# Altium integrated library IR Discrete MOSFET - Power.IntLib: 893 symbols (part 13 of 14)
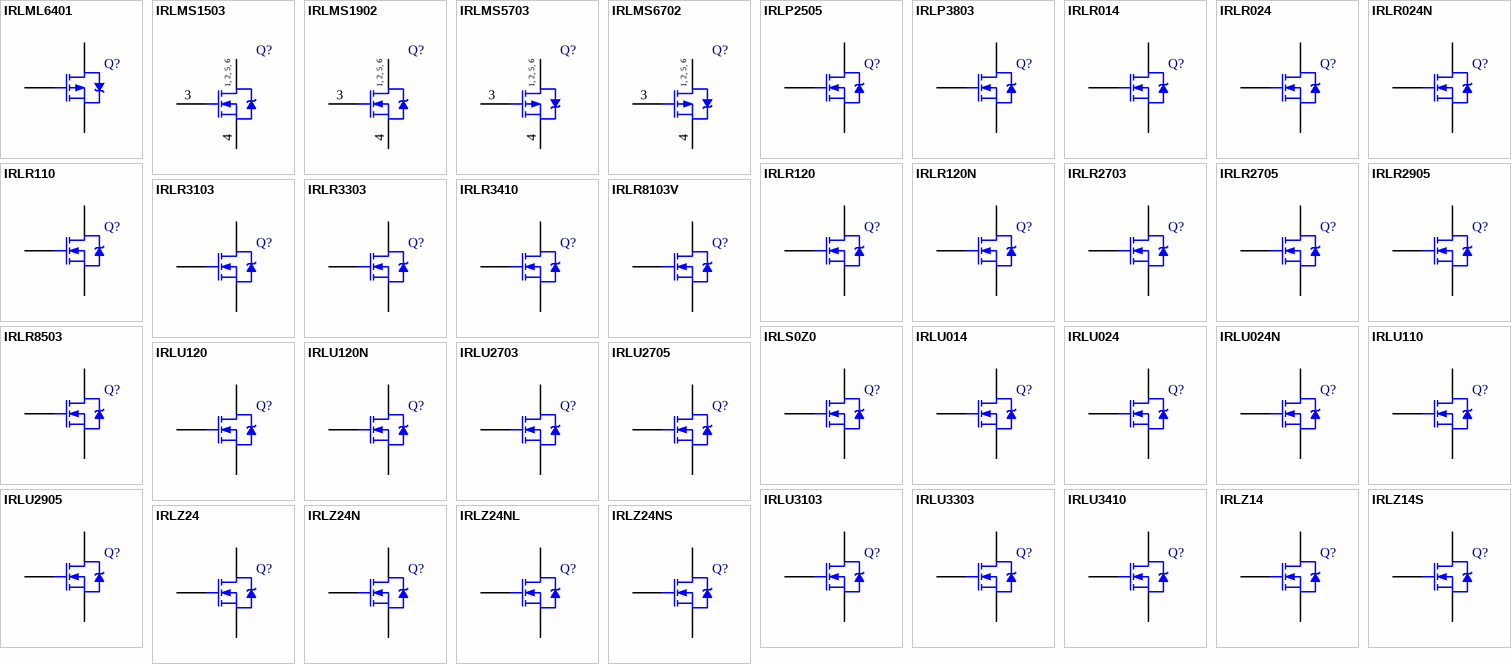
[diagram p35: symbols IRLML6401 to IRLZ24NS]

## IRLU3410
designator Q?
HEXFET Power MOSFET; Note: Pin 2 is electrically connected to pin 4.; Published: 8-Jun-2000; LatestRevisionDate: 17-Jul-2002; LatestRevisionNote: Re-released for DXP Platform.; DatasheetVersion: May-1998; PackageReference: TO-251AA; Publisher: Altium Limited; PackageDescription: TO, Thru-Hole, Vertical, Heatsink Mounted; 3 In-Line Leads; Pitch 2.28 mm; ComponentLink1Description: Manufacturer Link; ComponentLink1URL: http://www.irf.com/; ComponentLink2Description: Datasheet; ComponentLink2URL: http://www.irf.com/product-info/datasheets/data/irlr3410.pdf
footprint TO-251AA (TO, Thru-Hole, Vertical, Heatsink Mounted; 3 In-Line Leads; Pitch 2.28 mm)
pins: 1 G, 2 D, 3 S

## IRLZ14
designator Q?
HEXFET N-Channel Power MOSFET; Note: Pin 2 is electrically connected to pin 4.; Published: 8-Jun-2000; LatestRevisionDate: 17-Jul-2002; LatestRevisionNote: Re-released for DXP Platform.; DatasheetVersion: PD-9.556C; PackageVersion: Feb-1997; PackageReference: TO-220AB; Publisher: Altium Limited; PackageDescription: TO, Thru-Hole, Vertical, Heatsink Mounted; 3 In-Line Leads; Pitch 2.54 mm; ComponentLink1Description: Manufacturer Link; ComponentLink1URL: http://www.irf.com/; ComponentLink2Description: Datasheet; ComponentLink2URL: http://www.irf.com/product-info/datasheets/data/irlz14.pdf
footprint TO-220AB (TO, Thru-Hole, Vertical, Heatsink Mounted; 3 In-Line Leads; Pitch 2.54 mm)
simulation model IRLZ14 (SUBCKT)
pins: 1 G, 2 D, 3 S

## IRLZ14S
designator Q?
HEXFET N-Channel Power MOSFET; Published: 8-Jun-2000; LatestRevisionDate: 17-Jul-2002; LatestRevisionNote: Re-released for DXP Platform.; DatasheetVersion: Aug-1997; PackageReference: D2PAK; Publisher: Altium Limited; PackageDescription: D2-PAK/TO-263-AB; 3 Leads (1 Cropped); Body 15.5 (inc. leads) x 10.5 mm (LxW max); ComponentLink1Description: Manufacturer Link; ComponentLink1URL: http://www.irf.com/; ComponentLink2Description: Datasheet; ComponentLink2URL: http://www.irf.com/product-info/datasheets/data/irlz14s.pdf
footprint D2PAK (D2-PAK/TO-263-AB; 3 Leads (1 Cropped); Body 15.5 (inc. leads) x 10.5 mm (LxW max))
simulation model IRLZ14S (SUBCKT)
pins: 1 G, 2 D, 3 S

## IRLZ24
designator Q?
HEXFET N-Channel Power MOSFET; Note: Pin 2 is electrically connected to pin 4.; Published: 8-Jun-2000; LatestRevisionDate: 17-Jul-2002; LatestRevisionNote: Re-released for DXP Platform.; DatasheetVersion: PD-9.557C; PackageVersion: Feb-1997; PackageReference: TO-220AB; Publisher: Altium Limited; PackageDescription: TO, Thru-Hole, Vertical, Heatsink Mounted; 3 In-Line Leads; Pitch 2.54 mm; ComponentLink1Description: Manufacturer Link; ComponentLink1URL: http://www.irf.com/; ComponentLink2Description: Datasheet; ComponentLink2URL: http://www.irf.com/product-info/datasheets/data/irlz24.pdf
footprint TO-220AB (TO, Thru-Hole, Vertical, Heatsink Mounted; 3 In-Line Leads; Pitch 2.54 mm)
simulation model IRLZ24 (SUBCKT)
pins: 1 G, 2 D, 3 S

## IRLZ24N
designator Q?
HEXFET Power MOSFET; Note: Pin 2 is electrically connected to pin 4.; Published: 8-Jun-2000; LatestRevisionDate: 17-Jul-2002; LatestRevisionNote: Re-released for DXP Platform.; DatasheetVersion: Nov-1996; PackageVersion: Feb-1997; PackageReference: TO-220AB; Publisher: Altium Limited; PackageDescription: TO, Thru-Hole, Vertical, Heatsink Mounted; 3 In-Line Leads; Pitch 2.54 mm; ComponentLink1Description: Manufacturer Link; ComponentLink1URL: http://www.irf.com/; ComponentLink2Description: Datasheet; ComponentLink2URL: http://www.irf.com/product-info/datasheets/data/irlz24n.pdf
footprint TO-220AB (TO, Thru-Hole, Vertical, Heatsink Mounted; 3 In-Line Leads; Pitch 2.54 mm)
pins: 1 G, 2 D, 3 S

## IRLZ24NL
designator Q?
HEXFET Power MOSFET; Note: Pin 2 is electrically connected to pin 4.; Published: 8-Jun-2000; LatestRevisionDate: 17-Jul-2002; LatestRevisionNote: Re-released for DXP Platform.; DatasheetVersion: May-1998; PackageReference: TO-262; Publisher: Altium Limited; PackageDescription: TO, Thru-Hole, Vertical, Heatsink Mounted; 3 In-Line Leads; Pitch 2.54 mm; ComponentLink1Description: Manufacturer Link; ComponentLink1URL: http://www.irf.com/; ComponentLink2Description: Datasheet; ComponentLink2URL: http://www.irf.com/product-info/datasheets/data/irlz24nl.pdf
footprint TO-262 (TO, Thru-Hole, Vertical, Heatsink Mounted; 3 In-Line Leads; Pitch 2.54 mm)
pins: 1 G, 2 D, 3 S

## IRLZ24NS
designator Q?
HEXFET Power MOSFET; Published: 8-Jun-2000; LatestRevisionDate: 17-Jul-2002; LatestRevisionNote: Re-released for DXP Platform.; DatasheetVersion: May-1998; PackageReference: D2PAK; Publisher: Altium Limited; PackageDescription: D2-PAK/TO-263-AB; 3 Leads (1 Cropped); Body 15.5 (inc. leads) x 10.5 mm (LxW max); ComponentLink1Description: Manufacturer Link; ComponentLink1URL: http://www.irf.com/; ComponentLink2Description: Datasheet; ComponentLink2URL: http://www.irf.com/product-info/datasheets/data/irlz24ns.pdf
footprint D2PAK (D2-PAK/TO-263-AB; 3 Leads (1 Cropped); Body 15.5 (inc. leads) x 10.5 mm (LxW max))
pins: 1 G, 2 D, 3 S

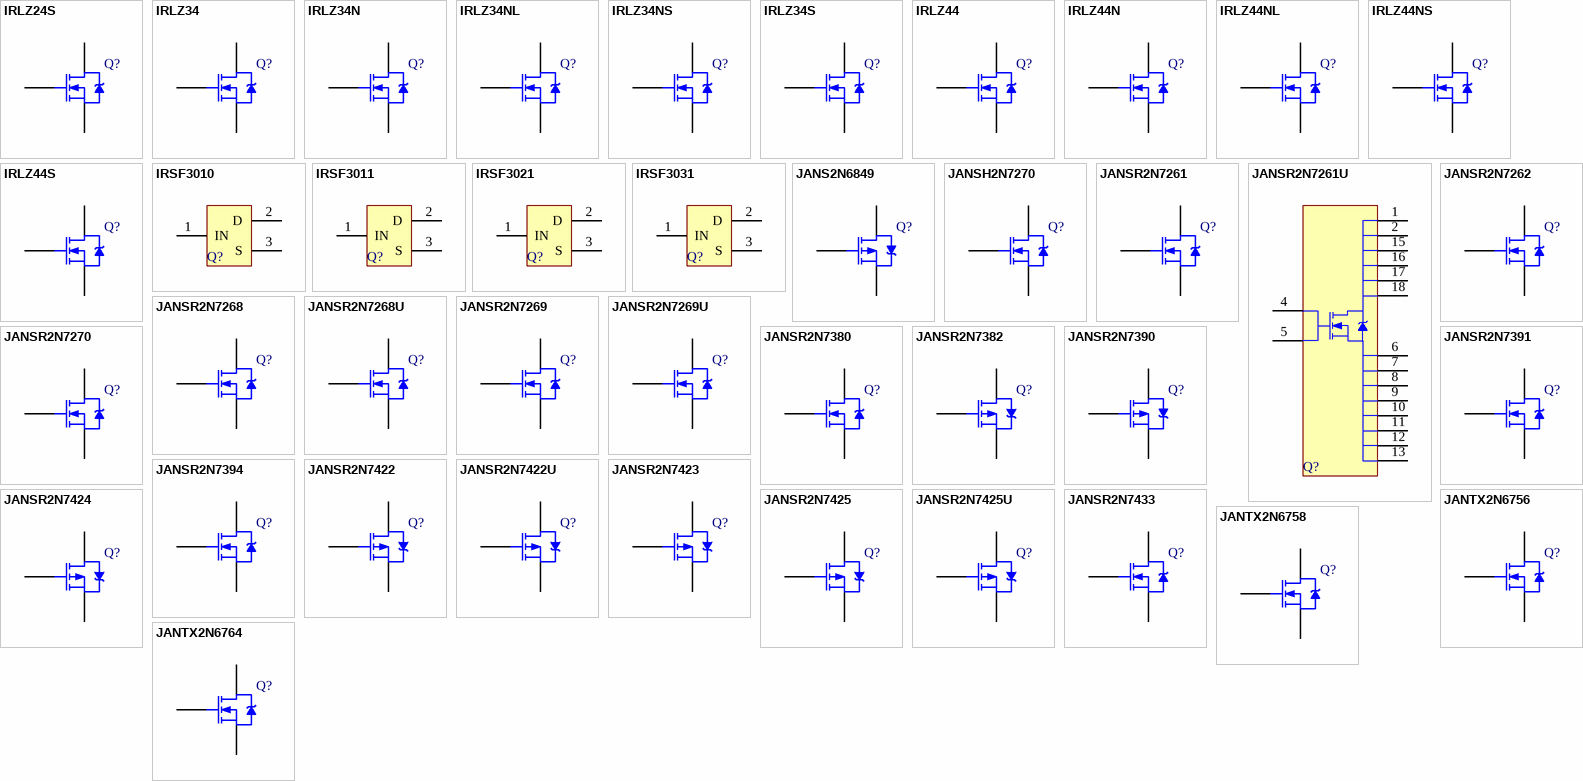
[diagram p22: symbols IRLZ24S to JANTX2N6764]

## IRLZ24S
designator Q?
HEXFET N-Channel Power MOSFET; Published: 8-Jun-2000; LatestRevisionDate: 17-Jul-2002; LatestRevisionNote: Re-released for DXP Platform.; DatasheetVersion: PD-9.904; PackageReference: D2PAK; Publisher: Altium Limited; PackageDescription: D2-PAK/TO-263-AB; 3 Leads (1 Cropped); Body 15.5 (inc. leads) x 10.5 mm (LxW max); ComponentLink1Description: Manufacturer Link; ComponentLink1URL: http://www.irf.com/; ComponentLink2Description: Datasheet; ComponentLink2URL: http://www.irf.com/product-info/datasheets/data/irlz24s.pdf
footprint D2PAK (D2-PAK/TO-263-AB; 3 Leads (1 Cropped); Body 15.5 (inc. leads) x 10.5 mm (LxW max))
simulation model IRLZ24S (SUBCKT)
pins: 1 G, 2 D, 3 S

## IRLZ34
designator Q?
HEXFET N-Channel Power MOSFET; Note: Pin 2 is electrically connected to pin 4.; Published: 8-Jun-2000; LatestRevisionDate: 17-Jul-2002; LatestRevisionNote: Re-released for DXP Platform.; DatasheetVersion: PD-9.558C; PackageVersion: Feb-1997; PackageReference: TO-220AB; Publisher: Altium Limited; PackageDescription: TO, Thru-Hole, Vertical, Heatsink Mounted; 3 In-Line Leads; Pitch 2.54 mm; ComponentLink1Description: Manufacturer Link; ComponentLink1URL: http://www.irf.com/; ComponentLink2Description: Datasheet; ComponentLink2URL: http://www.irf.com/product-info/datasheets/data/irlz34.pdf
footprint TO-220AB (TO, Thru-Hole, Vertical, Heatsink Mounted; 3 In-Line Leads; Pitch 2.54 mm)
simulation model IRLZ34 (SUBCKT)
pins: 1 G, 2 D, 3 S

## IRLZ34N
designator Q?
HEXFET Power MOSFET; Note: Pin 2 is electrically connected to pin 4.; Published: 8-Jun-2000; LatestRevisionDate: 17-Jul-2002; LatestRevisionNote: Re-released for DXP Platform.; DatasheetVersion: Aug-1997; PackageVersion: Feb-1997; PackageReference: TO-220AB; Publisher: Altium Limited; PackageDescription: TO, Thru-Hole, Vertical, Heatsink Mounted; 3 In-Line Leads; Pitch 2.54 mm; ComponentLink1Description: Manufacturer Link; ComponentLink1URL: http://www.irf.com/; ComponentLink2Description: Datasheet; ComponentLink2URL: http://www.irf.com/product-info/datasheets/data/irlz34n.pdf
footprint TO-220AB (TO, Thru-Hole, Vertical, Heatsink Mounted; 3 In-Line Leads; Pitch 2.54 mm)
simulation model IRLZ34N (SUBCKT)
pins: 1 G, 2 D, 3 S

## IRLZ34NL
designator Q?
HEXFET Power MOSFET; Note: Pin 2 is electrically connected to pin 4.; Published: 8-Jun-2000; LatestRevisionDate: 17-Jul-2002; LatestRevisionNote: Re-released for DXP Platform.; DatasheetVersion: May-1998; PackageReference: TO-262; Publisher: Altium Limited; PackageDescription: TO, Thru-Hole, Vertical, Heatsink Mounted; 3 In-Line Leads; Pitch 2.54 mm; ComponentLink1Description: Manufacturer Link; ComponentLink1URL: http://www.irf.com/; ComponentLink2Description: Datasheet; ComponentLink2URL: http://www.irf.com/product-info/datasheets/data/irlz34nl.pdf
footprint TO-262 (TO, Thru-Hole, Vertical, Heatsink Mounted; 3 In-Line Leads; Pitch 2.54 mm)
pins: 1 G, 2 D, 3 S

## IRLZ34NS
designator Q?
HEXFET Power MOSFET; Published: 8-Jun-2000; LatestRevisionDate: 17-Jul-2002; LatestRevisionNote: Re-released for DXP Platform.; DatasheetVersion: May-1998; PackageReference: D2PAK; Publisher: Altium Limited; PackageDescription: D2-PAK/TO-263-AB; 3 Leads (1 Cropped); Body 15.5 (inc. leads) x 10.5 mm (LxW max); ComponentLink1Description: Manufacturer Link; ComponentLink1URL: http://www.irf.com/; ComponentLink2Description: Datasheet; ComponentLink2URL: http://www.irf.com/product-info/datasheets/data/irlz34ns.pdf
footprint D2PAK (D2-PAK/TO-263-AB; 3 Leads (1 Cropped); Body 15.5 (inc. leads) x 10.5 mm (LxW max))
simulation model IRLZ34NS (SUBCKT)
pins: 1 G, 2 D, 3 S

## IRLZ34S
designator Q?
HEXFET N-Channel Power MOSFET; Published: 8-Jun-2000; LatestRevisionDate: 17-Jul-2002; LatestRevisionNote: Re-released for DXP Platform.; DatasheetVersion: Aug-1997; PackageReference: D2PAK; Publisher: Altium Limited; PackageDescription: D2-PAK/TO-263-AB; 3 Leads (1 Cropped); Body 15.5 (inc. leads) x 10.5 mm (LxW max); ComponentLink1Description: Manufacturer Link; ComponentLink1URL: http://www.irf.com/; ComponentLink2Description: Datasheet; ComponentLink2URL: http://www.irf.com/product-info/datasheets/data/irlz34s.pdf
footprint D2PAK (D2-PAK/TO-263-AB; 3 Leads (1 Cropped); Body 15.5 (inc. leads) x 10.5 mm (LxW max))
simulation model IRLZ34S (SUBCKT)
pins: 1 G, 2 D, 3 S

## IRLZ44
designator Q?
HEXFET N-Channel Power MOSFET; Note: Pin 2 is electrically connected to pin 4.; Published: 8-Jun-2000; LatestRevisionDate: 17-Jul-2002; LatestRevisionNote: Re-released for DXP Platform.; DatasheetVersion: PD-9.559C; PackageVersion: Feb-1997; PackageReference: TO-220AB; Publisher: Altium Limited; PackageDescription: TO, Thru-Hole, Vertical, Heatsink Mounted; 3 In-Line Leads; Pitch 2.54 mm; ComponentLink1Description: Manufacturer Link; ComponentLink1URL: http://www.irf.com/; ComponentLink2Description: Datasheet; ComponentLink2URL: http://www.irf.com/product-info/datasheets/data/irlz44.pdf
footprint TO-220AB (TO, Thru-Hole, Vertical, Heatsink Mounted; 3 In-Line Leads; Pitch 2.54 mm)
simulation model IRLZ44 (SUBCKT)
pins: 1 G, 2 D, 3 S

## IRLZ44N
designator Q?
HEXFET Power MOSFET; Note: Pin 2 is electrically connected to pin 4.; Published: 8-Jun-2000; LatestRevisionDate: 17-Jul-2002; LatestRevisionNote: Re-released for DXP Platform.; DatasheetVersion: Aug-1997; PackageVersion: Feb-1997; PackageReference: TO-220AB; Publisher: Altium Limited; PackageDescription: TO, Thru-Hole, Vertical, Heatsink Mounted; 3 In-Line Leads; Pitch 2.54 mm; ComponentLink1Description: Manufacturer Link; ComponentLink1URL: http://www.irf.com/; ComponentLink2Description: Datasheet; ComponentLink2URL: http://www.irf.com/product-info/datasheets/data/irlz44n.pdf
footprint TO-220AB (TO, Thru-Hole, Vertical, Heatsink Mounted; 3 In-Line Leads; Pitch 2.54 mm)
simulation model IRLZ44N (SUBCKT)
pins: 1 G, 2 D, 3 S

## IRLZ44NL
designator Q?
HEXFET Power MOSFET; Note: Pin 2 is electrically connected to pin 4.; Published: 8-Jun-2000; LatestRevisionDate: 17-Jul-2002; LatestRevisionNote: Re-released for DXP Platform.; DatasheetVersion: May-1998; PackageReference: TO-262; Publisher: Altium Limited; PackageDescription: TO, Thru-Hole, Vertical, Heatsink Mounted; 3 In-Line Leads; Pitch 2.54 mm; ComponentLink1Description: Manufacturer Link; ComponentLink1URL: http://www.irf.com/; ComponentLink2Description: Datasheet; ComponentLink2URL: http://www.irf.com/product-info/datasheets/data/irlz44nl.pdf
footprint TO-262 (TO, Thru-Hole, Vertical, Heatsink Mounted; 3 In-Line Leads; Pitch 2.54 mm)
pins: 1 G, 2 D, 3 S

## IRLZ44NS
designator Q?
HEXFET Power MOSFET; Published: 8-Jun-2000; LatestRevisionDate: 17-Jul-2002; LatestRevisionNote: Re-released for DXP Platform.; DatasheetVersion: May-1998; PackageReference: D2PAK; Publisher: Altium Limited; PackageDescription: D2-PAK/TO-263-AB; 3 Leads (1 Cropped); Body 15.5 (inc. leads) x 10.5 mm (LxW max); ComponentLink1Description: Manufacturer Link; ComponentLink1URL: http://www.irf.com/; ComponentLink2Description: Datasheet; ComponentLink2URL: http://www.irf.com/product-info/datasheets/data/irlz44ns.pdf
footprint D2PAK (D2-PAK/TO-263-AB; 3 Leads (1 Cropped); Body 15.5 (inc. leads) x 10.5 mm (LxW max))
pins: 1 G, 2 D, 3 S

## IRLZ44S
designator Q?
HEXFET Power MOSFET; Published: 8-Jun-2000; LatestRevisionDate: 17-Jul-2002; LatestRevisionNote: Re-released for DXP Platform.; DatasheetVersion: PD-9.906; PackageReference: D2PAK; Publisher: Altium Limited; PackageDescription: D2-PAK/TO-263-AB; 3 Leads (1 Cropped); Body 15.5 (inc. leads) x 10.5 mm (LxW max); ComponentLink1Description: Manufacturer Link; ComponentLink1URL: http://www.irf.com/; ComponentLink2Description: Datasheet; ComponentLink2URL: http://www.irf.com/product-info/datasheets/data/irlz44s.pdf
footprint D2PAK (D2-PAK/TO-263-AB; 3 Leads (1 Cropped); Body 15.5 (inc. leads) x 10.5 mm (LxW max))
pins: 1 G, 2 D, 3 S

## IRSF3010
designator Q?
Fully Protected Power MOSFET Switch; Note: Pin 2 is electrically connected to TAB (Drain).; Published: 8-Jun-2000; LatestRevisionDate: 17-Jul-2002; LatestRevisionNote: Re-released for DXP Platform.; DatasheetVersion: Dec-1996; PackageVersion: Feb-1997; PackageReference: TO-220AB; Publisher: Altium Limited; PackageDescription: TO, Thru-Hole, Vertical, Heatsink Mounted; 3 In-Line Leads; Pitch 2.54 mm; ComponentLink1Description: Manufacturer Link; ComponentLink1URL: http://www.irf.com/; ComponentLink2Description: Datasheet; ComponentLink2URL: http://www.irf.com/product-info/datasheets/data/irsf3010.pdf
footprint TO-220AB (TO, Thru-Hole, Vertical, Heatsink Mounted; 3 In-Line Leads; Pitch 2.54 mm)
pins: 1 IN, 2 D, 3 S

## IRSF3011
designator Q?
Fully Protected Power MOSFET Switch; Note: Pin 2 is electrically connected to TAB (Drain).; ComponentAvailability: Not for New Design; Published: 8-Jun-2000; LatestRevisionDate: 17-Jul-2002; LatestRevisionNote: Re-released for DXP Platform.; DatasheetVersion: Sep-1998; PackageVersion: Feb-1997; PackageReference: TO-220AB; Publisher: Altium Limited; PackageDescription: TO, Thru-Hole, Vertical, Heatsink Mounted; 3 In-Line Leads; Pitch 2.54 mm; ComponentLink1Description: Manufacturer Link; ComponentLink1URL: http://www.irf.com/; ComponentLink2Description: Datasheet; ComponentLink2URL: http://www.irf.com/product-info/datasheets/data/irsf3011.pdf
footprint TO-220AB (TO, Thru-Hole, Vertical, Heatsink Mounted; 3 In-Line Leads; Pitch 2.54 mm)
pins: 1 IN, 2 D, 3 S

## IRSF3021
designator Q?
Fully Protected Power MOSFET Switch; Note: Pin 2 is electrically connected to TAB (Drain).; ComponentAvailability: Not for New Design; Published: 8-Jun-2000; LatestRevisionDate: 17-Jul-2002; LatestRevisionNote: Re-released for DXP Platform.; DatasheetVersion: PD60068-H; PackageVersion: Feb-1997; PackageReference: TO-220AB; Publisher: Altium Limited; PackageDescription: TO, Thru-Hole, Vertical, Heatsink Mounted; 3 In-Line Leads; Pitch 2.54 mm; ComponentLink1Description: Manufacturer Link; ComponentLink1URL: http://www.irf.com/; ComponentLink2Description: Datasheet; ComponentLink2URL: http://www.irf.com/product-info/datasheets/data/irsf3021.pdf
footprint TO-220AB (TO, Thru-Hole, Vertical, Heatsink Mounted; 3 In-Line Leads; Pitch 2.54 mm)
pins: 1 IN, 2 D, 3 S

## IRSF3031
designator Q?
Fully Protected Power MOSFET Switch; Note: Pin 2 is electrically connected to TAB (Drain).; ComponentAvailability: Not for New Design; Published: 8-Jun-2000; LatestRevisionDate: 17-Jul-2002; LatestRevisionNote: Re-released for DXP Platform.; DatasheetVersion: PD60069-H; PackageVersion: Feb-1997; PackageReference: TO-220AB; Publisher: Altium Limited; PackageDescription: TO, Thru-Hole, Vertical, Heatsink Mounted; 3 In-Line Leads; Pitch 2.54 mm; ComponentLink1Description: Manufacturer Link; ComponentLink1URL: http://www.irf.com/; ComponentLink2Description: Datasheet; ComponentLink2URL: http://www.irf.com/product-info/datasheets/data/irsf3031.pdf
footprint TO-220AB (TO, Thru-Hole, Vertical, Heatsink Mounted; 3 In-Line Leads; Pitch 2.54 mm)
pins: 1 IN, 2 D, 3 S

## JANS2N6849
designator Q?
Repetitive Avalanche and dv/dt Rated HEXFET Transistor; Published: 17-Sep-2003; DatasheetVersion: 20-Apr-2001; PackageVersion: Feb-2001; PackageReference: TO-205AF; Publisher: Altium Limited; PackageDescription: Can; 3 Leads; Pin Circle Dia. 5.08 mm; Lead Dia. 0.48 mm (max); Code_JEDEC: TO-205-AF; ComponentLink1Description: Manufacturer Link; ComponentLink1URL: http://www.irf.com/; ComponentLink2Description: Datasheet; ComponentLink2URL: http://www.irf.com/product-info/datasheets/data/jantx2n6849.pdf
footprint TO-205AF (Can; 3 Leads; Pin Circle Dia. 5.08 mm; Lead Dia. 0.48 mm (max))
pins: 1 S, 2 G, 3 D

## JANSH2N7270
designator Q?
Radiation Hardened HEXFET Power MOSFET; Published: 17-Sep-2003; DatasheetVersion: Feb-1999; PackageReference: TO-254AA; Publisher: Altium Limited; PackageDescription: TO, Thru-Hole, Vertical, Heatsink Mounted; 3 In-Line Leads; Pitch 3.81 mm; Code_JEDEC: TO-254-AA; ComponentLink1Description: Manufacturer Link; ComponentLink1URL: http://www.irf.com/; ComponentLink2Description: Datasheet; ComponentLink2URL: http://www.irf.com/product-info/datasheets/data/IRHG57110.pdf
footprint TO-254AA (TO, Thru-Hole, Vertical, Heatsink Mounted; 3 In-Line Leads; Pitch 3.81 mm)
pins: 1 D, 2 S, 3 G

## JANSR2N7261
designator Q?
Radiation Hardened HEXFET Power MOSFET; Published: 17-Sep-2003; DatasheetVersion: 10-Aug-2001; PackageVersion: Feb-2001; PackageReference: TO-205AF; Publisher: Altium Limited; PackageDescription: Can; 3 Leads; Pin Circle Dia. 5.08 mm; Lead Dia. 0.48 mm (max); Code_JEDEC: TO-205-AF; ComponentLink1Description: Manufacturer Link; ComponentLink1URL: http://www.irf.com/; ComponentLink2Description: Datasheet; ComponentLink2URL: http://www.irf.com/product-info/datasheets/data/IRHF7130.pdf
footprint TO-205AF (Can; 3 Leads; Pin Circle Dia. 5.08 mm; Lead Dia. 0.48 mm (max))
pins: 1 S, 2 G, 3 D

## JANSR2N7261U
designator Q?
Radiation Hardened HEXFET Power MOSFET; Note: Pins 3, 14 are NC pins and are not drawn.; PCB_Layout: Connecting fill between center pad and pads 11 & 12 narrower than specified. Adjust to suit.; Published: 17-Sep-2003; DatasheetVersion: 3-Jul-2001; PackageVersion: 16-Jan-2001; PackageReference: LCC-18; Publisher: Altium Limited; PackageDescription: Leadless Chip Carrier; 18 Terminals; Body 7.3 x 9 mm; ComponentLink1Description: Manufacturer Link; ComponentLink1URL: http://www.irf.com/; ComponentLink2Description: Datasheet; ComponentLink2URL: http://www.irf.com/product-info/datasheets/data/IRHE7130.pdf
footprint LCC-18 (Leadless Chip Carrier; 18 Terminals; Body 7.3 x 9 mm)
pins: 1 D, 2 D, 4 G, 5 G, 6 S, 7 S, 8 S, 9 S, 10 S, 11 S, 12 S, 13 S, 15 D, 16 D, 17 D, 18 D

## JANSR2N7262
designator Q?
Radiation Hardened HEXFET Power MOSFET; Published: 17-Sep-2003; DatasheetVersion: 7-Mar-2001; PackageVersion: Mar-2001; PackageReference: TO-39; Publisher: Altium Limited; PackageDescription: Can; 3 Leads; Pin Circle Dia. 5.08 mm; Lead Dia. 0.48 mm (max); Code_JEDEC: TO-205-AF; ComponentLink1Description: Manufacturer Link; ComponentLink1URL: http://www.irf.com/; ComponentLink2Description: Datasheet; ComponentLink2URL: http://www.irf.com/product-info/datasheets/data/IRHF7230.pdf
footprint TO-39 (Can; 3 Leads; Pin Circle Dia. 5.08 mm; Lead Dia. 0.48 mm (max))
pins: 1 S, 2 G, 3 D

## JANSR2N7268
designator Q?
Radiation Hardened HEXFET Power MOSFET; Published: 17-Sep-2003; DatasheetVersion: 14-Aug-2001; PackageReference: TO-254AA; Publisher: Altium Limited; PackageDescription: TO, Thru-Hole, Vertical, Heatsink Mounted; 3 In-Line Leads; Pitch 3.81 mm; Code_JEDEC: TO-254-AA; ComponentLink1Description: Manufacturer Link; ComponentLink1URL: http://www.irf.com/; ComponentLink2Description: Datasheet; ComponentLink2URL: http://www.irf.com/product-info/datasheets/data/IRHM7450.pdf
footprint TO-254AA (TO, Thru-Hole, Vertical, Heatsink Mounted; 3 In-Line Leads; Pitch 3.81 mm)
pins: 1 D, 2 S, 3 G

## JANSR2N7268U
designator Q?
Radiation Hardened HEXFET Power MOSFET; Published: 17-Sep-2003; DatasheetVersion: Feb-2001; PackageVersion: 10-Jul-2001; PackageReference: SMD-1; Publisher: Altium Limited; PackageDescription: SM; 3 Leadless Terminals; Body 16 x 11.55 x 3.58 mm (LxWxH); ComponentLink1Description: Manufacturer Link; ComponentLink1URL: http://www.irf.com/; ComponentLink2Description: Datasheet; ComponentLink2URL: http://www.irf.com/product-info/datasheets/data/IRHN7150.pdf
footprint SMD-1 (SM; 3 Leadless Terminals; Body 16 x 11.55 x 3.58 mm (LxWxH))
pins: 1 D, 2 G, 3 S

## JANSR2N7269
designator Q?
Radiation Hardened HEXFET Power MOSFET; Published: 17-Sep-2003; DatasheetVersion: 11-Oct-2000; PackageReference: TO-254AA; Publisher: Altium Limited; PackageDescription: TO, Thru-Hole, Vertical, Heatsink Mounted; 3 In-Line Leads; Pitch 3.81 mm; Code_JEDEC: TO-254-AA; ComponentLink1Description: Manufacturer Link; ComponentLink1URL: http://www.irf.com/; ComponentLink2Description: Datasheet; ComponentLink2URL: http://www.irf.com/product-info/datasheets/data/IRHY57133CMSE.pdf
footprint TO-254AA (TO, Thru-Hole, Vertical, Heatsink Mounted; 3 In-Line Leads; Pitch 3.81 mm)
pins: 1 D, 2 S, 3 G

## JANSR2N7269U
designator Q?
Radiation Hardened HEXFET Power MOSFET; Published: 17-Sep-2003; DatasheetVersion: 17-Dec-2001; PackageVersion: 10-Jul-2001; PackageReference: SMD-1; Publisher: Altium Limited; PackageDescription: SM; 3 Leadless Terminals; Body 16 x 11.55 x 3.58 mm (LxWxH); ComponentLink1Description: Manufacturer Link; ComponentLink1URL: http://www.irf.com/; ComponentLink2Description: Datasheet; ComponentLink2URL: http://www.irf.com/product-info/datasheets/data/irhn7250.pdf
footprint SMD-1 (SM; 3 Leadless Terminals; Body 16 x 11.55 x 3.58 mm (LxWxH))
pins: 1 D, 2 G, 3 S

## JANSR2N7270
designator Q?
Radiation Hardened HEXFET Power MOSFET; Published: 17-Sep-2003; DatasheetVersion: Feb-1999; PackageReference: TO-254AA; Publisher: Altium Limited; PackageDescription: TO, Thru-Hole, Vertical, Heatsink Mounted; 3 In-Line Leads; Pitch 3.81 mm; Code_JEDEC: TO-254-AA; ComponentLink1Description: Manufacturer Link; ComponentLink1URL: http://www.irf.com/; ComponentLink2Description: Datasheet; ComponentLink2URL: http://www.irf.com/product-info/datasheets/data/IRHY7G30CMSE.pdf
footprint TO-254AA (TO, Thru-Hole, Vertical, Heatsink Mounted; 3 In-Line Leads; Pitch 3.81 mm)
pins: 1 D, 2 S, 3 G

## JANSR2N7380
designator Q?
Radiation Hardened HEXFET Power MOSFET; Published: 17-Sep-2003; DatasheetVersion: 17-Dec-2001; PackageVersion: Aug-2001; PackageReference: TO-257AA; Publisher: Altium Limited; PackageDescription: TO, Thru-Hole, Vertical, Heatsink Mounted; 3 In-Line Leads; Pitch 2.54 mm; ComponentLink1Description: Manufacturer Link; ComponentLink1URL: http://www.irf.com/; ComponentLink2Description: Datasheet; ComponentLink2URL: http://www.irf.com/product-info/datasheets/data/IRFPS37N50A.pdf
footprint TO-257AA (TO, Thru-Hole, Vertical, Heatsink Mounted; 3 In-Line Leads; Pitch 2.54 mm)
pins: 1 D, 2 S, 3 G

## JANSR2N7382
designator Q?
Radiation Hardened HEXFET Power MOSFET; Published: 17-Sep-2003; DatasheetVersion: 13-Jun-2002; PackageVersion: Aug-2001; PackageReference: TO-257AA; Publisher: Altium Limited; PackageDescription: TO, Thru-Hole, Vertical, Heatsink Mounted; 3 In-Line Leads; Pitch 2.54 mm; ComponentLink1Description: Manufacturer Link; ComponentLink1URL: http://www.irf.com/; ComponentLink2Description: Datasheet; ComponentLink2URL: http://www.irf.com/product-info/datasheets/data/irhy9130cm.pdf
footprint TO-257AA (TO, Thru-Hole, Vertical, Heatsink Mounted; 3 In-Line Leads; Pitch 2.54 mm)
pins: 1 D, 2 S, 3 G

## JANSR2N7390
designator Q?
Radiation Hardened HEXFET Power MOSFET; Published: 17-Sep-2003; DatasheetVersion: 14-Jan-2002; PackageVersion: Feb-2001; PackageReference: TO-205AF; Publisher: Altium Limited; PackageDescription: Can; 3 Leads; Pin Circle Dia. 5.08 mm; Lead Dia. 0.48 mm (max); Code_JEDEC: TO-205-AF; ComponentLink1Description: Manufacturer Link; ComponentLink1URL: http://www.irf.com/; ComponentLink2Description: Datasheet; ComponentLink2URL: http://www.irf.com/product-info/datasheets/data/IRHF9230.pdf
footprint TO-205AF (Can; 3 Leads; Pin Circle Dia. 5.08 mm; Lead Dia. 0.48 mm (max))
pins: 1 S, 2 G, 3 D

## JANSR2N7391
designator Q?
Radiation Hardened HEXFET Power MOSFET; Published: 17-Sep-2003; DatasheetVersion: 17-May-2001; PackageReference: TO-254AA; Publisher: Altium Limited; PackageDescription: TO, Thru-Hole, Vertical, Heatsink Mounted; 3 In-Line Leads; Pitch 3.81 mm; Code_JEDEC: TO-254-AA; ComponentLink1Description: Manufacturer Link; ComponentLink1URL: http://www.irf.com/; ComponentLink2Description: Datasheet; ComponentLink2URL: http://www.irf.com/product-info/datasheets/data/IRHY57Z30CM.pdf
footprint TO-254AA (TO, Thru-Hole, Vertical, Heatsink Mounted; 3 In-Line Leads; Pitch 3.81 mm)
pins: 1 D, 2 S, 3 G

## JANSR2N7394
designator Q?
Radiation Hardened HEXFET Power MOSFET; Published: 17-Sep-2003; DatasheetVersion: 9-Aug-2001; PackageReference: TO-254AA; Publisher: Altium Limited; PackageDescription: TO, Thru-Hole, Vertical, Heatsink Mounted; 3 In-Line Leads; Pitch 3.81 mm; Code_JEDEC: TO-254-AA; ComponentLink1Description: Manufacturer Link; ComponentLink1URL: http://www.irf.com/; ComponentLink2Description: Datasheet; ComponentLink2URL: http://www.irf.com/product-info/datasheets/data/IRHM7450.pdf
footprint TO-254AA (TO, Thru-Hole, Vertical, Heatsink Mounted; 3 In-Line Leads; Pitch 3.81 mm)
pins: 1 D, 2 S, 3 G

## JANSR2N7422
designator Q?
Radiation Hardened HEXFET Power MOSFET; Published: 17-Sep-2003; DatasheetVersion: 6-Dec-2001; PackageReference: TO-254AA; Publisher: Altium Limited; PackageDescription: TO, Thru-Hole, Vertical, Heatsink Mounted; 3 In-Line Leads; Pitch 3.81 mm; Code_JEDEC: TO-254-AA; ComponentLink1Description: Manufacturer Link; ComponentLink1URL: http://www.irf.com/; ComponentLink2Description: Datasheet; ComponentLink2URL: http://www.irf.com/product-info/datasheets/data/IRHM9150.pdf
footprint TO-254AA (TO, Thru-Hole, Vertical, Heatsink Mounted; 3 In-Line Leads; Pitch 3.81 mm)
pins: 1 D, 2 S, 3 G

## JANSR2N7422U
designator Q?
Radiation Hardened HEXFET Power MOSFET; Published: 17-Sep-2003; DatasheetVersion: 29-Jan-2001; PackageVersion: 10-Jul-2001; PackageReference: SMD-1; Publisher: Altium Limited; PackageDescription: SM; 3 Leadless Terminals; Body 16 x 11.55 x 3.58 mm (LxWxH); ComponentLink1Description: Manufacturer Link; ComponentLink1URL: http://www.irf.com/; ComponentLink2Description: Datasheet; ComponentLink2URL: http://www.irf.com/product-info/datasheets/data/IRHN9150.pdf
footprint SMD-1 (SM; 3 Leadless Terminals; Body 16 x 11.55 x 3.58 mm (LxWxH))
pins: 1 D, 2 G, 3 S

## JANSR2N7423
designator Q?
Radiation Hardened HEXFET Power MOSFET; Published: 17-Sep-2003; DatasheetVersion: 29-Jan-2002; PackageReference: TO-254AA; Publisher: Altium Limited; PackageDescription: TO, Thru-Hole, Vertical, Heatsink Mounted; 3 In-Line Leads; Pitch 3.81 mm; Code_JEDEC: TO-254-AA; ComponentLink1Description: Manufacturer Link; ComponentLink1URL: http://www.irf.com/; ComponentLink2Description: Datasheet; ComponentLink2URL: http://www.irf.com/product-info/datasheets/data/IRHM9250.pdf
footprint TO-254AA (TO, Thru-Hole, Vertical, Heatsink Mounted; 3 In-Line Leads; Pitch 3.81 mm)
pins: 1 D, 2 S, 3 G

## JANSR2N7424
designator Q?
Radiation Hardened HEXFET Power MOSFET; Published: 17-Sep-2003; DatasheetVersion: 14-Jan-2002; PackageReference: TO-254AA; Publisher: Altium Limited; PackageDescription: TO, Thru-Hole, Vertical, Heatsink Mounted; 3 In-Line Leads; Pitch 3.81 mm; Code_JEDEC: TO-254-AA; ComponentLink1Description: Manufacturer Link; ComponentLink1URL: http://www.irf.com/; ComponentLink2Description: Datasheet; ComponentLink2URL: http://www.irf.com/product-info/datasheets/data/IRHM9064.pdf
footprint TO-254AA (TO, Thru-Hole, Vertical, Heatsink Mounted; 3 In-Line Leads; Pitch 3.81 mm)
pins: 1 D, 2 S, 3 G

## JANSR2N7425
designator Q?
Radiation Hardened HEXFET Power MOSFET; Published: 17-Sep-2003; DatasheetVersion: 20-Dec-2001; PackageReference: TO-254AA; Publisher: Altium Limited; PackageDescription: TO, Thru-Hole, Vertical, Heatsink Mounted; 3 In-Line Leads; Pitch 3.81 mm; Code_JEDEC: TO-254-AA; ComponentLink1Description: Manufacturer Link; ComponentLink1URL: http://www.irf.com/; ComponentLink2Description: Datasheet; ComponentLink2URL: http://www.irf.com/product-info/datasheets/data/IRHM9160.pdf
footprint TO-254AA (TO, Thru-Hole, Vertical, Heatsink Mounted; 3 In-Line Leads; Pitch 3.81 mm)
pins: 1 D, 2 S, 3 G

## JANSR2N7425U
designator Q?
Radiation Hardened HEXFET Power MOSFET; Published: 17-Sep-2003; DatasheetVersion: 29-Jan-2001; PackageVersion: 18-Feb-02; PackageReference: SMD-2; Publisher: Altium Limited; PackageDescription: SM; 3 Leadless Terminals; Body 17.65 x 13.46 x 3.58 mm (LxWxH); ComponentLink1Description: Manufacturer Link; ComponentLink1URL: http://www.irf.com/; ComponentLink2Description: Datasheet; ComponentLink2URL: http://www.irf.com/product-info/datasheets/data/IRHNA9160.pdf
footprint SMD-2 (SM; 3 Leadless Terminals; Body 17.65 x 13.46 x 3.58 mm (LxWxH))
pins: 1 D, 2 G, 3 S

## JANSR2N7433
designator Q?
Radiation Hardened HEXFET Power MOSFET; Published: 17-Sep-2003; DatasheetVersion: 14-Aug-2001; PackageReference: TO-254AA; Publisher: Altium Limited; PackageDescription: TO, Thru-Hole, Vertical, Heatsink Mounted; 3 In-Line Leads; Pitch 3.81 mm; Code_JEDEC: TO-254-AA; ComponentLink1Description: Manufacturer Link; ComponentLink1URL: http://www.irf.com/; ComponentLink2Description: Datasheet; ComponentLink2URL: http://www.irf.com/product-info/datasheets/data/IRHY57230CMSE.pdf
footprint TO-254AA (TO, Thru-Hole, Vertical, Heatsink Mounted; 3 In-Line Leads; Pitch 3.81 mm)
pins: 1 D, 2 S, 3 G

## JANTX2N6756
designator Q?
Repetitive Avalanche and dv/dt Rated HEXFET Transistor; Published: 17-Sep-2003; DatasheetVersion: 22-Jan-2001; PackageVersion: Dec-1997; PackageReference: TO-204AA; Publisher: Altium Limited; PackageDescription: Oval Flange Mount with (2) Offset Leads; Pin Spacing 10.92 mm; Lead Dia. 1.07 mm (max); ComponentLink1Description: Manufacturer Link; ComponentLink1URL: http://www.irf.com/; ComponentLink2Description: Datasheet; ComponentLink2URL: http://www.irf.com/product-info/datasheets/data/jantx2n6756.pdf
footprint TO-204AA (Oval Flange Mount with (2) Offset Leads; Pin Spacing 10.92 mm; Lead Dia. 1.07 mm (max))
pins: 1 S, 2 G, 3 D

## JANTX2N6758
designator Q?
Repetitive Avalanche and dv/dt Rated HEXFET Transistor; Published: 17-Sep-2003; DatasheetVersion: 24-Jan-2001; PackageVersion: Dec-1997; PackageReference: TO-204AA; Publisher: Altium Limited; PackageDescription: Oval Flange Mount with (2) Offset Leads; Pin Spacing 10.92 mm; Lead Dia. 1.07 mm (max); ComponentLink1Description: Manufacturer Link; ComponentLink1URL: http://www.irf.com/; ComponentLink2Description: Datasheet; ComponentLink2URL: http://www.irf.com/product-info/datasheets/data/jantx2n6758.pdf
footprint TO-204AA (Oval Flange Mount with (2) Offset Leads; Pin Spacing 10.92 mm; Lead Dia. 1.07 mm (max))
pins: 1 S, 2 G, 3 D

## JANTX2N6764
designator Q?
Repetitive Avalanche and dv/dt Rated HEXFET Transistor; Published: 17-Sep-2003; DatasheetVersion: 21-Aug-2001; PackageReference: TO-204AE; Publisher: Altium Limited; PackageDescription: Oval Flange Mount with (2) Offset Leads; Pin Spacing 10.92 mm; Lead Dia. 1.57 mm (max); ComponentLink1Description: Manufacturer Link; ComponentLink1URL: http://www.irf.com/; ComponentLink2Description: Datasheet; ComponentLink2URL: http://www.irf.com/product-info/datasheets/data/jantx2n6764.pdf
footprint TO-204AE (Oval Flange Mount with (2) Offset Leads; Pin Spacing 10.92 mm; Lead Dia. 1.57 mm (max))
pins: 1 S, 2 G, 3 D

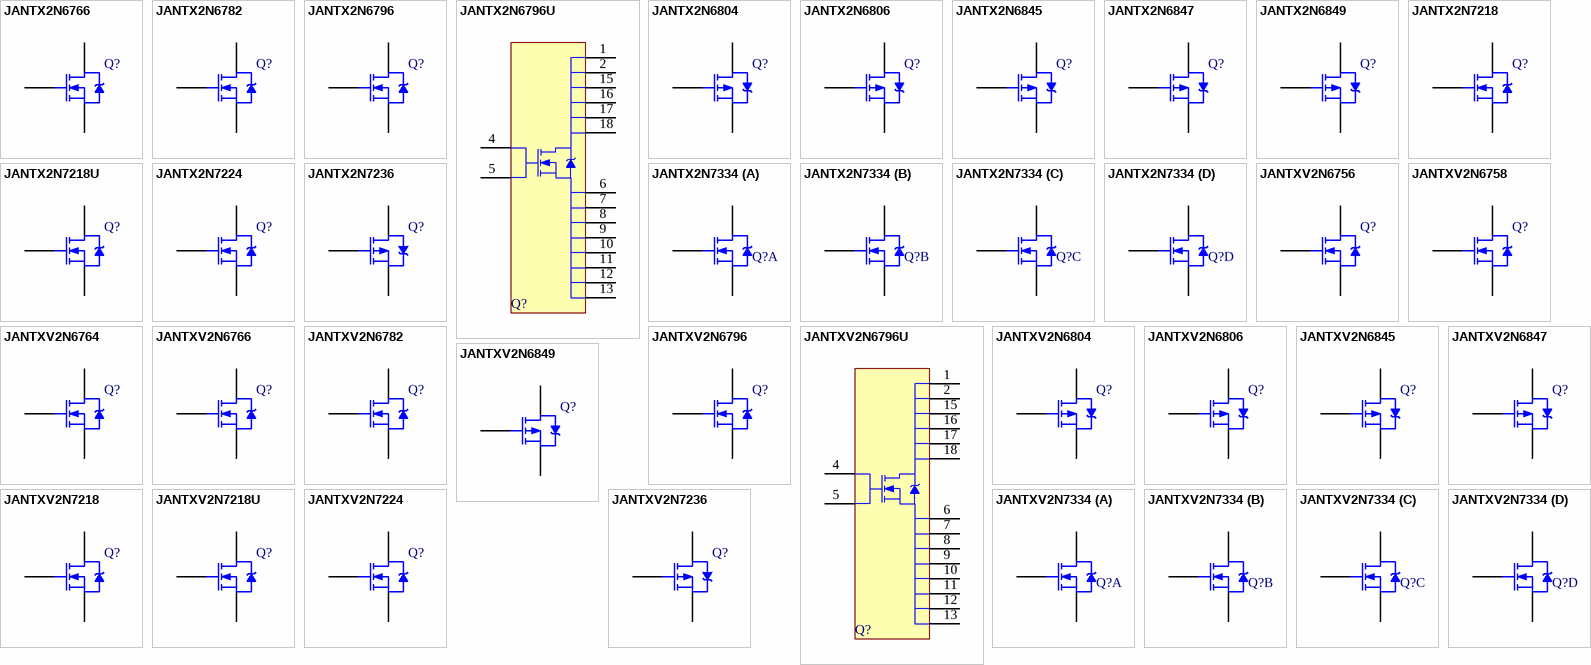
[diagram p23: symbols JANTX2N6766 to JANTXV2N7334]

## JANTX2N6766
designator Q?
Repetitive Avalanche and dv/dt Rated HEXFET Transistor; Published: 17-Sep-2003; DatasheetVersion: 22-Jan-2001; PackageReference: TO-204AE; Publisher: Altium Limited; PackageDescription: Oval Flange Mount with (2) Offset Leads; Pin Spacing 10.92 mm; Lead Dia. 1.57 mm (max); ComponentLink1Description: Manufacturer Link; ComponentLink1URL: http://www.irf.com/; ComponentLink2Description: Datasheet; ComponentLink2URL: http://www.irf.com/product-info/datasheets/data/jantx2n6766.pdf
footprint TO-204AE (Oval Flange Mount with (2) Offset Leads; Pin Spacing 10.92 mm; Lead Dia. 1.57 mm (max))
pins: 1 S, 2 G, 3 D

## JANTX2N6782
designator Q?
Repetitive Avalanche and dv/dt Rated HEXFET Transistor; Published: 17-Sep-2003; DatasheetVersion: 22-Jan-2001; PackageVersion: Feb-2001; PackageReference: TO-205AF; Publisher: Altium Limited; PackageDescription: Can; 3 Leads; Pin Circle Dia. 5.08 mm; Lead Dia. 0.48 mm (max); Code_JEDEC: TO-205-AF; ComponentLink1Description: Manufacturer Link; ComponentLink1URL: http://www.irf.com/; ComponentLink2Description: Datasheet; ComponentLink2URL: http://www.irf.com/product-info/datasheets/data/JANTX2N6782.pdf
footprint TO-205AF (Can; 3 Leads; Pin Circle Dia. 5.08 mm; Lead Dia. 0.48 mm (max))
simulation model JANTX2N6782 (SUBCKT)
pins: 1 S, 2 G, 3 D

## JANTX2N6796
designator Q?
Repetitive Avalanche and dv/dt Rated HEXFET Transistor; Published: 17-Sep-2003; DatasheetVersion: 22-Jan-2001; PackageVersion: Feb-2001; PackageReference: TO-205AF; Publisher: Altium Limited; PackageDescription: Can; 3 Leads; Pin Circle Dia. 5.08 mm; Lead Dia. 0.48 mm (max); Code_JEDEC: TO-205-AF; ComponentLink1Description: Manufacturer Link; ComponentLink1URL: http://www.irf.com/; ComponentLink2Description: Datasheet; ComponentLink2URL: http://www.irf.com/product-info/datasheets/data/jantx2n6796.pdf
footprint TO-205AF (Can; 3 Leads; Pin Circle Dia. 5.08 mm; Lead Dia. 0.48 mm (max))
pins: 1 S, 2 G, 3 D

## JANTX2N6796U
designator Q?
Repetitive Avalanche and dv/dt Rated HEXFET Transistor; Note: Pins 3, 14 are NC pins and are not drawn.; PCB_Layout: Connecting fill between center pad and pads 11 & 12 narrower than specified. Adjust to suit.; Published: 17-Sep-2003; DatasheetVersion: 17-Jan-2001; PackageVersion: 16-Jan-2001; PackageReference: LCC-18; Publisher: Altium Limited; PackageDescription: Leadless Chip Carrier; 18 Terminals; Body 7.3 x 9 mm; ComponentLink1Description: Manufacturer Link; ComponentLink1URL: http://www.irf.com/; ComponentLink2Description: Datasheet; ComponentLink2URL: http://www.irf.com/product-info/datasheets/data/irfe130.pdf
footprint LCC-18 (Leadless Chip Carrier; 18 Terminals; Body 7.3 x 9 mm)
pins: 1 D, 2 D, 4 G, 5 G, 6 S, 7 S, 8 S, 9 S, 10 S, 11 S, 12 S, 13 S, 15 D, 16 D, 17 D, 18 D

## JANTX2N6804
designator Q?
Repetitive Avalanche and dv/dt Rated HEXFET Transistor; Published: 17-Sep-2003; DatasheetVersion: 22-Jan-2001; PackageVersion: Dec-1997; PackageReference: TO-204AA; Publisher: Altium Limited; PackageDescription: Oval Flange Mount with (2) Offset Leads; Pin Spacing 10.92 mm; Lead Dia. 1.07 mm (max); ComponentLink1Description: Manufacturer Link; ComponentLink1URL: http://www.irf.com/; ComponentLink2Description: Datasheet; ComponentLink2URL: http://www.irf.com/product-info/datasheets/data/jantx2n6804.pdf
footprint TO-204AA (Oval Flange Mount with (2) Offset Leads; Pin Spacing 10.92 mm; Lead Dia. 1.07 mm (max))
pins: 1 S, 2 G, 3 D

## JANTX2N6806
designator Q?
Repetitive Avalanche and dv/dt Rated HEXFET Transistor; Published: 17-Sep-2003; DatasheetVersion: 22-Jan-2001; PackageVersion: Dec-1997; PackageReference: TO-204AA; Publisher: Altium Limited; PackageDescription: Oval Flange Mount with (2) Offset Leads; Pin Spacing 10.92 mm; Lead Dia. 1.07 mm (max); ComponentLink1Description: Manufacturer Link; ComponentLink1URL: http://www.irf.com/; ComponentLink2Description: Datasheet; ComponentLink2URL: http://www.irf.com/product-info/datasheets/data/jantx2n6806.pdf
footprint TO-204AA (Oval Flange Mount with (2) Offset Leads; Pin Spacing 10.92 mm; Lead Dia. 1.07 mm (max))
pins: 1 S, 2 G, 3 D

## JANTX2N6845
designator Q?
Repetitive Avalanche and dv/dt Rated HEXFET Transistor; Published: 17-Sep-2003; DatasheetVersion: 22-Jan-2001; PackageVersion: Feb-2001; PackageReference: TO-205AF; Publisher: Altium Limited; PackageDescription: Can; 3 Leads; Pin Circle Dia. 5.08 mm; Lead Dia. 0.48 mm (max); Code_JEDEC: TO-205-AF; ComponentLink1Description: Manufacturer Link; ComponentLink1URL: http://www.irf.com/; ComponentLink2Description: Datasheet; ComponentLink2URL: http://www.irf.com/product-info/datasheets/data/JANTX2N6845.pdf
footprint TO-205AF (Can; 3 Leads; Pin Circle Dia. 5.08 mm; Lead Dia. 0.48 mm (max))
simulation model JANTX2N6845 (SUBCKT)
pins: 1 S, 2 G, 3 D

## JANTX2N6847
designator Q?
Repetitive Avalanche and dv/dt Rated HEXFET Transistor; Published: 17-Sep-2003; DatasheetVersion: 22-Jan-2001; PackageVersion: Feb-2001; PackageReference: TO-205AF; Publisher: Altium Limited; PackageDescription: Can; 3 Leads; Pin Circle Dia. 5.08 mm; Lead Dia. 0.48 mm (max); Code_JEDEC: TO-205-AF; ComponentLink1Description: Manufacturer Link; ComponentLink1URL: http://www.irf.com/; ComponentLink2Description: Datasheet; ComponentLink2URL: http://www.irf.com/product-info/datasheets/data/jantx2n6847.pdf
footprint TO-205AF (Can; 3 Leads; Pin Circle Dia. 5.08 mm; Lead Dia. 0.48 mm (max))
pins: 1 S, 2 G, 3 D

## JANTX2N6849
designator Q?
Repetitive Avalanche and dv/dt Rated HEXFET Transistor; Published: 17-Sep-2003; DatasheetVersion: 20-Apr-2001; PackageVersion: Feb-2001; PackageReference: TO-205AF; Publisher: Altium Limited; PackageDescription: Can; 3 Leads; Pin Circle Dia. 5.08 mm; Lead Dia. 0.48 mm (max); Code_JEDEC: TO-205-AF; ComponentLink1Description: Manufacturer Link; ComponentLink1URL: http://www.irf.com/; ComponentLink2Description: Datasheet; ComponentLink2URL: http://www.irf.com/product-info/datasheets/data/jantx2n6849.pdf
footprint TO-205AF (Can; 3 Leads; Pin Circle Dia. 5.08 mm; Lead Dia. 0.48 mm (max))
pins: 1 S, 2 G, 3 D

## JANTX2N7218
designator Q?
HEXFET Power MOSFET; Published: 17-Sep-2003; DatasheetVersion: PD-9.486C; PackageReference: TO-254AA; Publisher: Altium Limited; PackageDescription: TO, Thru-Hole, Vertical, Heatsink Mounted; 3 In-Line Leads; Pitch 3.81 mm; Code_JEDEC: TO-254-AA; ComponentLink1Description: Manufacturer Link; ComponentLink1URL: http://www.irf.com/; ComponentLink2Description: Datasheet; ComponentLink2URL: http://www.irf.com/product-info/datasheets/data/irfm140.pdf
footprint TO-254AA (TO, Thru-Hole, Vertical, Heatsink Mounted; 3 In-Line Leads; Pitch 3.81 mm)
pins: 1 D, 2 S, 3 G

## JANTX2N7218U
designator Q?
HEXFET Power MOSFET; Published: 17-Sep-2003; DatasheetVersion: 28-Jan-2002; PackageVersion: 10-Jul-2001; PackageReference: SMD-1; Publisher: Altium Limited; PackageDescription: SM; 3 Leadless Terminals; Body 16 x 11.55 x 3.58 mm (LxWxH); ComponentLink1Description: Manufacturer Link; ComponentLink1URL: http://www.irf.com/; ComponentLink2Description: Datasheet; ComponentLink2URL: http://www.irf.com/product-info/datasheets/data/IRFN140.pdf
footprint SMD-1 (SM; 3 Leadless Terminals; Body 16 x 11.55 x 3.58 mm (LxWxH))
pins: 1 D, 2 G, 3 S

## JANTX2N7224
designator Q?
HEXFET Power MOSFET; Published: 17-Sep-2003; DatasheetVersion: PD-9.487C; PackageReference: TO-254AA; Publisher: Altium Limited; PackageDescription: TO, Thru-Hole, Vertical, Heatsink Mounted; 3 In-Line Leads; Pitch 3.81 mm; Code_JEDEC: TO-254-AA; ComponentLink1Description: Manufacturer Link; ComponentLink1URL: http://www.irf.com/
footprint TO-254AA (TO, Thru-Hole, Vertical, Heatsink Mounted; 3 In-Line Leads; Pitch 3.81 mm)
pins: 1 D, 2 S, 3 G

## JANTX2N7236
designator Q?
HEXFET Power MOSFET; Published: 17-Sep-2003; DatasheetVersion: 5-Feb-2002; PackageReference: TO-254AA; Publisher: Altium Limited; PackageDescription: TO, Thru-Hole, Vertical, Heatsink Mounted; 3 In-Line Leads; Pitch 3.81 mm; Code_JEDEC: TO-254-AA; ComponentLink1Description: Manufacturer Link; ComponentLink1URL: http://www.irf.com/; ComponentLink2Description: Datasheet; ComponentLink2URL: http://www.irf.com/product-info/datasheets/data/IRFM9140.pdf
footprint TO-254AA (TO, Thru-Hole, Vertical, Heatsink Mounted; 3 In-Line Leads; Pitch 3.81 mm)
pins: 1 D, 2 S, 3 G

## JANTX2N7334
designator Q?
HEXFET Power MOSFET; Note: Pins 4, 11 are NC pins and are not drawn.; Published: 17-Sep-2003; LatestRevisionDate: 04-Mar-2005; LatestRevisionNote: Stylized 3D Model Added.; DatasheetVersion: 16-Apr-2002; PackageVersion: Jul-2001; PackageReference: MO-036AB; Publisher: Altium Limited; PackageDescription: DIP; 14 Leads; Row Spacing 7.62 mm; Pitch 2.54 mm; Code_JEDEC: MO-036AB; ComponentLink1Description: Manufacturer Link; ComponentLink1URL: http://www.irf.com/; ComponentLink2Description: Datasheet; ComponentLink2URL: http://www.irf.com/product-info/datasheets/data/IRFPS40N50L.pdf
footprint MO-036AB (DIP; 14 Leads; Row Spacing 7.62 mm; Pitch 2.54 mm)
3D model MO-036AB (DIP; 14 Leads; Row Spacing 7.62 mm; Pitch 2.54 mm)
part A pins: 1 D, 2 S, 3 G
part B pins: 5 G, 6 S, 7 D
part C pins: 8 D, 9 S, 10 G
part D pins: 12 G, 13 S, 14 D

## JANTXV2N6756
designator Q?
Repetitive Avalanche and dv/dt Rated HEXFET Transistor; Published: 17-Sep-2003; DatasheetVersion: 22-Jan-2001; PackageVersion: Dec-1997; PackageReference: TO-204AA; Publisher: Altium Limited; PackageDescription: Oval Flange Mount with (2) Offset Leads; Pin Spacing 10.92 mm; Lead Dia. 1.07 mm (max); ComponentLink1Description: Manufacturer Link; ComponentLink1URL: http://www.irf.com/; ComponentLink2Description: Datasheet; ComponentLink2URL: http://www.irf.com/product-info/datasheets/data/jantx2n6756.pdf
footprint TO-204AA (Oval Flange Mount with (2) Offset Leads; Pin Spacing 10.92 mm; Lead Dia. 1.07 mm (max))
pins: 1 S, 2 G, 3 D

## JANTXV2N6758
designator Q?
Repetitive Avalanche and dv/dt Rated HEXFET Transistor; Published: 17-Sep-2003; DatasheetVersion: 24-Jan-2001; PackageVersion: Dec-1997; PackageReference: TO-204AA; Publisher: Altium Limited; PackageDescription: Oval Flange Mount with (2) Offset Leads; Pin Spacing 10.92 mm; Lead Dia. 1.07 mm (max); ComponentLink1Description: Manufacturer Link; ComponentLink1URL: http://www.irf.com/; ComponentLink2Description: Datasheet; ComponentLink2URL: http://www.irf.com/product-info/datasheets/data/jantx2n6758.pdf
footprint TO-204AA (Oval Flange Mount with (2) Offset Leads; Pin Spacing 10.92 mm; Lead Dia. 1.07 mm (max))
pins: 1 S, 2 G, 3 D

## JANTXV2N6764
designator Q?
Repetitive Avalanche and dv/dt Rated HEXFET Transistor; Published: 17-Sep-2003; DatasheetVersion: 21-Aug-2001; PackageReference: TO-204AE; Publisher: Altium Limited; PackageDescription: Oval Flange Mount with (2) Offset Leads; Pin Spacing 10.92 mm; Lead Dia. 1.57 mm (max); ComponentLink1Description: Manufacturer Link; ComponentLink1URL: http://www.irf.com/; ComponentLink2Description: Datasheet; ComponentLink2URL: http://www.irf.com/product-info/datasheets/data/jantx2n6764.pdf
footprint TO-204AE (Oval Flange Mount with (2) Offset Leads; Pin Spacing 10.92 mm; Lead Dia. 1.57 mm (max))
pins: 1 S, 2 G, 3 D

## JANTXV2N6766
designator Q?
Repetitive Avalanche and dv/dt Rated HEXFET Transistor; Published: 17-Sep-2003; DatasheetVersion: 22-Jan-2001; PackageReference: TO-204AE; Publisher: Altium Limited; PackageDescription: Oval Flange Mount with (2) Offset Leads; Pin Spacing 10.92 mm; Lead Dia. 1.57 mm (max); ComponentLink1Description: Manufacturer Link; ComponentLink1URL: http://www.irf.com/; ComponentLink2Description: Datasheet; ComponentLink2URL: http://www.irf.com/product-info/datasheets/data/jantx2n6766.pdf
footprint TO-204AE (Oval Flange Mount with (2) Offset Leads; Pin Spacing 10.92 mm; Lead Dia. 1.57 mm (max))
pins: 1 S, 2 G, 3 D

## JANTXV2N6782
designator Q?
Repetitive Avalanche and dv/dt Rated HEXFET Transistor; Published: 17-Sep-2003; DatasheetVersion: 22-Jan-2001; PackageVersion: Feb-2001; PackageReference: TO-205AF; Publisher: Altium Limited; PackageDescription: Can; 3 Leads; Pin Circle Dia. 5.08 mm; Lead Dia. 0.48 mm (max); Code_JEDEC: TO-205-AF; ComponentLink1Description: Manufacturer Link; ComponentLink1URL: http://www.irf.com/; ComponentLink2Description: Datasheet; ComponentLink2URL: http://www.irf.com/product-info/datasheets/data/JANTX2N6782.pdf
footprint TO-205AF (Can; 3 Leads; Pin Circle Dia. 5.08 mm; Lead Dia. 0.48 mm (max))
pins: 1 S, 2 G, 3 D

## JANTXV2N6796
designator Q?
Repetitive Avalanche and dv/dt Rated HEXFET Transistor; Published: 17-Sep-2003; DatasheetVersion: 22-Jan-2001; PackageVersion: Feb-2001; PackageReference: TO-205AF; Publisher: Altium Limited; PackageDescription: Can; 3 Leads; Pin Circle Dia. 5.08 mm; Lead Dia. 0.48 mm (max); Code_JEDEC: TO-205-AF; ComponentLink1Description: Manufacturer Link; ComponentLink1URL: http://www.irf.com/; ComponentLink2Description: Datasheet; ComponentLink2URL: http://www.irf.com/product-info/datasheets/data/jantx2n6796.pdf
footprint TO-205AF (Can; 3 Leads; Pin Circle Dia. 5.08 mm; Lead Dia. 0.48 mm (max))
pins: 1 S, 2 G, 3 D

## JANTXV2N6796U
designator Q?
Repetitive Avalanche and dv/dt Rated HEXFET Transistor; Note: Pins 3, 14 are NC pins and are not drawn.; PCB_Layout: Connecting fill between center pad and pads 11 & 12 narrower than specified. Adjust to suit.; Published: 17-Sep-2003; DatasheetVersion: 17-Jan-2001; PackageVersion: 16-Jan-2001; PackageReference: LCC-18; Publisher: Altium Limited; PackageDescription: Leadless Chip Carrier; 18 Terminals; Body 7.3 x 9 mm; ComponentLink1Description: Manufacturer Link; ComponentLink1URL: http://www.irf.com/; ComponentLink2Description: Datasheet; ComponentLink2URL: http://www.irf.com/product-info/datasheets/data/irfe130.pdf
footprint LCC-18 (Leadless Chip Carrier; 18 Terminals; Body 7.3 x 9 mm)
pins: 1 D, 2 D, 4 G, 5 G, 6 S, 7 S, 8 S, 9 S, 10 S, 11 S, 12 S, 13 S, 15 D, 16 D, 17 D, 18 D

## JANTXV2N6804
designator Q?
Repetitive Avalanche and dv/dt Rated HEXFET Transistor; Published: 17-Sep-2003; DatasheetVersion: 22-Jan-2001; PackageVersion: Dec-1997; PackageReference: TO-204AA; Publisher: Altium Limited; PackageDescription: Oval Flange Mount with (2) Offset Leads; Pin Spacing 10.92 mm; Lead Dia. 1.07 mm (max); ComponentLink1Description: Manufacturer Link; ComponentLink1URL: http://www.irf.com/; ComponentLink2Description: Datasheet; ComponentLink2URL: http://www.irf.com/product-info/datasheets/data/jantx2n6804.pdf
footprint TO-204AA (Oval Flange Mount with (2) Offset Leads; Pin Spacing 10.92 mm; Lead Dia. 1.07 mm (max))
pins: 1 S, 2 G, 3 D

## JANTXV2N6806
designator Q?
Repetitive Avalanche and dv/dt Rated HEXFET Transistor; Published: 17-Sep-2003; DatasheetVersion: 22-Jan-2001; PackageVersion: Dec-1997; PackageReference: TO-204AA; Publisher: Altium Limited; PackageDescription: Oval Flange Mount with (2) Offset Leads; Pin Spacing 10.92 mm; Lead Dia. 1.07 mm (max); ComponentLink1Description: Manufacturer Link; ComponentLink1URL: http://www.irf.com/; ComponentLink2Description: Datasheet; ComponentLink2URL: http://www.irf.com/product-info/datasheets/data/jantx2n6806.pdf
footprint TO-204AA (Oval Flange Mount with (2) Offset Leads; Pin Spacing 10.92 mm; Lead Dia. 1.07 mm (max))
pins: 1 S, 2 G, 3 D

## JANTXV2N6845
designator Q?
Repetitive Avalanche and dv/dt Rated HEXFET Transistor; Published: 17-Sep-2003; DatasheetVersion: 22-Jan-2001; PackageVersion: Feb-2001; PackageReference: TO-205AF; Publisher: Altium Limited; PackageDescription: Can; 3 Leads; Pin Circle Dia. 5.08 mm; Lead Dia. 0.48 mm (max); Code_JEDEC: TO-205-AF; ComponentLink1Description: Manufacturer Link; ComponentLink1URL: http://www.irf.com/; ComponentLink2Description: Datasheet; ComponentLink2URL: http://www.irf.com/product-info/datasheets/data/JANTX2N6845.pdf
footprint TO-205AF (Can; 3 Leads; Pin Circle Dia. 5.08 mm; Lead Dia. 0.48 mm (max))
pins: 1 S, 2 G, 3 D

## JANTXV2N6847
designator Q?
Repetitive Avalanche and dv/dt Rated HEXFET Transistor; Published: 17-Sep-2003; DatasheetVersion: 22-Jan-2001; PackageVersion: Feb-2001; PackageReference: TO-205AF; Publisher: Altium Limited; PackageDescription: Can; 3 Leads; Pin Circle Dia. 5.08 mm; Lead Dia. 0.48 mm (max); Code_JEDEC: TO-205-AF; ComponentLink1Description: Manufacturer Link; ComponentLink1URL: http://www.irf.com/; ComponentLink2Description: Datasheet; ComponentLink2URL: http://www.irf.com/product-info/datasheets/data/jantx2n6847.pdf
footprint TO-205AF (Can; 3 Leads; Pin Circle Dia. 5.08 mm; Lead Dia. 0.48 mm (max))
pins: 1 S, 2 G, 3 D

## JANTXV2N6849
designator Q?
Repetitive Avalanche and dv/dt Rated HEXFET Transistor; Published: 17-Sep-2003; DatasheetVersion: 20-Apr-2001; PackageVersion: Feb-2001; PackageReference: TO-205AF; Publisher: Altium Limited; PackageDescription: Can; 3 Leads; Pin Circle Dia. 5.08 mm; Lead Dia. 0.48 mm (max); Code_JEDEC: TO-205-AF; ComponentLink1Description: Manufacturer Link; ComponentLink1URL: http://www.irf.com/; ComponentLink2Description: Datasheet; ComponentLink2URL: http://www.irf.com/product-info/datasheets/data/jantx2n6849.pdf
footprint TO-205AF (Can; 3 Leads; Pin Circle Dia. 5.08 mm; Lead Dia. 0.48 mm (max))
pins: 1 S, 2 G, 3 D

## JANTXV2N7218
designator Q?
HEXFET Power MOSFET; Published: 17-Sep-2003; DatasheetVersion: PD-9.486C; PackageReference: TO-254AA; Publisher: Altium Limited; PackageDescription: TO, Thru-Hole, Vertical, Heatsink Mounted; 3 In-Line Leads; Pitch 3.81 mm; Code_JEDEC: TO-254-AA; ComponentLink1Description: Manufacturer Link; ComponentLink1URL: http://www.irf.com/; ComponentLink2Description: Datasheet; ComponentLink2URL: http://www.irf.com/product-info/datasheets/data/irfm140.pdf
footprint TO-254AA (TO, Thru-Hole, Vertical, Heatsink Mounted; 3 In-Line Leads; Pitch 3.81 mm)
pins: 1 D, 2 S, 3 G